# Altium schematic symbol library Capacitor_0805.SchLib: 1 symbol
Pins are listed as number, name and electrical type; pins without a type are passive.

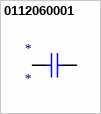
[diagram p0: symbol 0112060001]

## 0112060001
designator *
pins: 1, 2